# Altium footprint library O_JonF_DaveL.PcbLib: 331 footprints (part 12 of 21)
Each footprint in its own frame and in the unit in brackets; x right, y up, seen from the top. Pads: shape width x height; smd on the part's side, far side on the other; paste and mask are expansions set on the pad; w line width, h text height; cw(c..) or ccw(c..) is an arc to the next point about the centre after c.
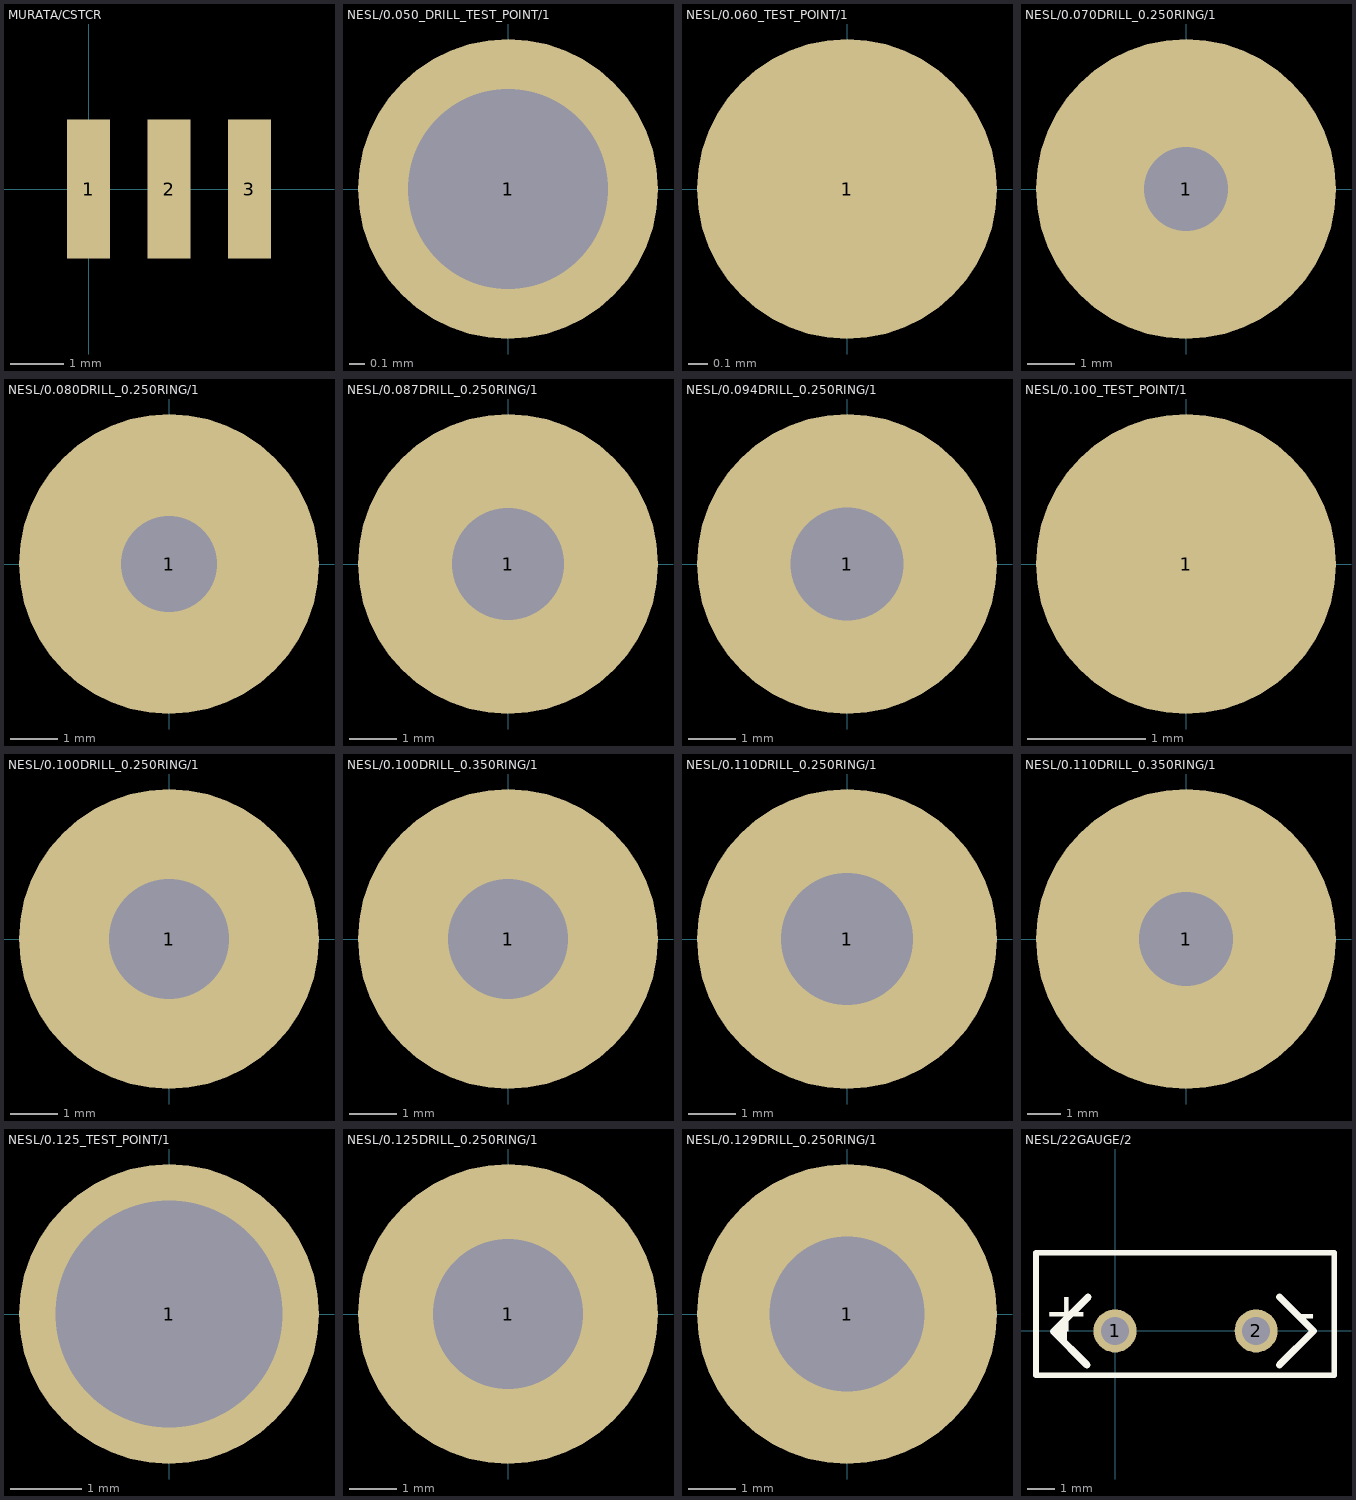
[diagram p11: the footprints below, top view; thin cyan lines are the x and y axes]

## MURATA/CSTCR [mm]
pads (3):
  rect 0.8x2.6 smd: 1(0,0) 2(1.5,0) 3(3,0)
Top Overlay:
  text ".Designator" at -0.547,-2.853 h0.95
Mechanical 1:
  text ".Designator" at -0.547,-2.853 h0.95
  text ".Comment" at -0.455,-4.052 h0.95
  text ".Pattern" at -0.547,-6.519 h0.95

## NESL/0.050_DRILL_TEST_POINT/1 [mil]
pads (1):
  round 75 hole 50: 1(0,0)

## NESL/0.060_TEST_POINT/1 [mil]
pads (1):
  round 60 smd: 1(0,0)

## NESL/0.070DRILL_0.250RING/1 [mil]
pads (1):
  round 250 hole 70: 1(0,0)
Top Overlay:
  text ".Designator" at 0,337.5 h56.25
Mechanical 1:
  text ".Designator" at 0,337.5 h56.25
  text ".Comment" at 0,225 h56.25
  text ".Pattern" at 0,0 h56.25

## NESL/0.080DRILL_0.250RING/1 [mil]
pads (1):
  round 250 hole 80: 1(0,0)
Top Overlay:
  text ".Designator" at 0,337.5 h56.25
Mechanical 1:
  text ".Pattern" at 0,0 h56.25
  text ".Comment" at 0,225 h56.25
  text ".Designator" at 0,337.5 h56.25

## NESL/0.087DRILL_0.250RING/1 [mil]
pads (1):
  round 250 hole 93: 1(0,0)

## NESL/0.094DRILL_0.250RING/1 [mil]
pads (1):
  round 250 hole 94: 1(0,0)

## NESL/0.100_TEST_POINT/1 [mil]
pads (1):
  round 100 smd: 1(0,0)

## NESL/0.100DRILL_0.250RING/1 [mil]
pads (1):
  round 250 hole 100: 1(0,0)

## NESL/0.100DRILL_0.350RING/1 [mil]
pads (1):
  round 250 hole 100: 1(0,0)

## NESL/0.110DRILL_0.250RING/1 [mil]
pads (1):
  round 250 hole 110: 1(0,0)

## NESL/0.110DRILL_0.350RING/1 [mil]
pads (1):
  round 350 / inner round 250 / far side round 350 hole 110: 1(0,0)

## NESL/0.125_TEST_POINT/1 [mil]
pads (1):
  round 165 / inner round 125 / far side round 165 hole 125: 1(0,0)

## NESL/0.125DRILL_0.250RING/1 [mil]
pads (1):
  round 250 hole 125: 1(0,0)

## NESL/0.129DRILL_0.250RING/1 [mil]
pads (1):
  round 250 hole 129: 1(0,0)

## NESL/22GAUGE/2 [mil]
pads (2):
  round 61 hole 40: 1(0,0) 2(200,0)
Top Overlay:
  lines w8: -112,-63 -112,111 311,111 311,-63 -112,-63
  lines w10: -40,-48 -87,-1 -38,48 ; 233.33,-48 281.33,0 233.33,48 ; -83,-2 -73,-12 -73,11 -83,1 -83,-2
  text "+" at -101,-1 h56.25
  text "-" at 257,-1 h56.25